# Altium schematic symbol library MySchLib.SchLib: 12 symbols
Pins are listed as number, name and electrical type; pins without a type are passive.

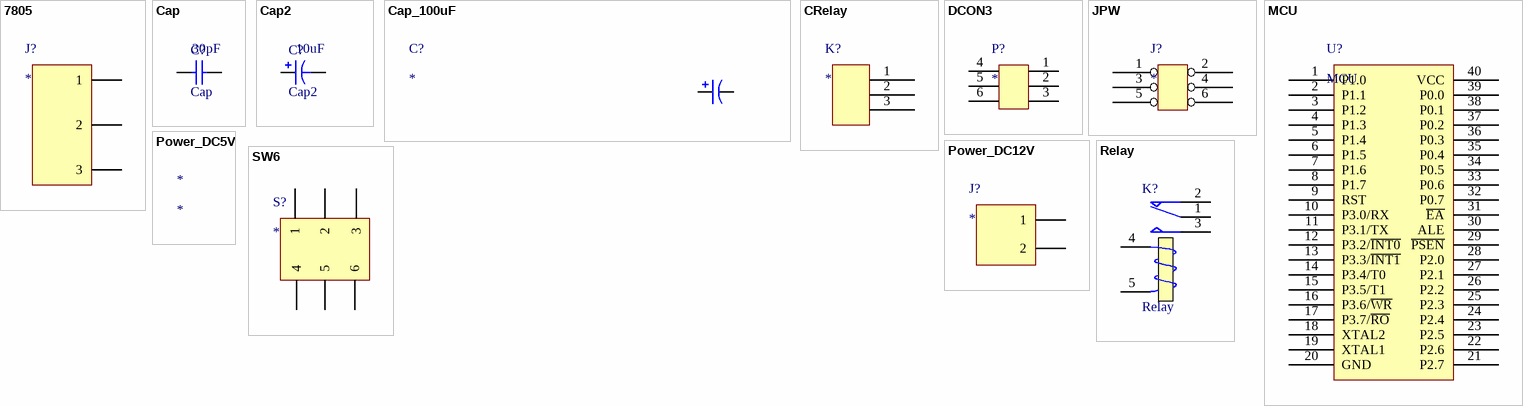
[diagram p0: symbols 7805 to SW6]

## 7805
designator J?
footprint 7805
pins: 1, 2, 3

## Cap
designator C?  value 30pF
Capacitor; Published: 8-Jun-2000; LatestRevisionDate: 17-Jul-2002; LatestRevisionNote: Re-released for DXP Platform.; PackageReference: RAD-0.3; Publisher: Altium Limited; PackageDescription: Radial Cap, Thru-Hole; 2 Leads; 0.3 in Pin Spacing
simulation model CAP (Capacitor)
signal-integrity model Cap
footprint cap (Footprint not found)
pins: 1, 2

## Cap2
designator C?  value 10uF
Polarized Capacitor (Axial); Published: 8-Jun-2000; LatestRevisionDate: 17-Jul-2002; LatestRevisionNote: Re-released for DXP Platform.; PackageReference: POLAR0.8; Publisher: Altium Limited; PackageDescription: Polarized Capacitor; 2 Leads
simulation model CAP (Capacitor)
footprint cap2
pins: 1, 2
1 alternate drawing of the same symbol

## Cap_100uF
designator C?
footprint Cap_100uF
pins: 1, 2

## CRelay
designator K?
footprint CRelay
pins: 1 NO, 2 COM, 3 NC

## DCON3
designator P?
footprint DCON3
pins: 1, 2, 3, 4, 5, 6

## JPW
designator J?
footprint JPW
pins: 1, 2, 3, 4, 5, 6

## MCU
designator U?
STC89C52RC; TAuthor: fcf; Version: 1.0; TDate: 2014/9/4
footprint MCU (STC89C52RC)
pins: 1 P1.0, 2 P1.1, 3 P1.2, 4 P1.3, 5 P1.4, 6 P1.5, 7 P1.6, 8 P1.7, 9 RST, 10 P3.0/RX, 11 P3.1/TX, 12 P3.2/~{INT0}, 13 P3.3/~{INT1}, 14 P3.4/T0, 15 P3.5/T1, 16 P3.6/~{WR}, 17 P3.7/~{RO}, 18 XTAL2, 19 XTAL1, 20 GND, 21 P2.7, 22 P2.6, 23 P2.5, 24 P2.4, 25 P2.3, 26 P2.2, 27 P2.1, 28 P2.0, 29 ~{PSEN}, 30 ALE, 31 ~{EA}, 32 P0.7, 33 P0.6, 34 P0.5, 35 P0.4, 36 P0.3, 37 P0.2, 38 P0.1, 39 P0.0, 40 VCC

## Power_DC5V
designator *

## Power_DC12V
designator J?
footprint Power_DC12V
pins: 1 (power), 2 (power)

## Relay
designator K?
HLS8L-DC5V-S-C; Published: 8-Jun-2000; LatestRevisionDate: 17-Jul-2002; LatestRevisionNote: Re-released for DXP Platform.; PackageReference: MODULE5B; Publisher: Altium Limited
footprint Relay (HLS8L-DC5V-S-C)
simulation model SPDTRELAY (Spice Subcircuit)
pins: 1 COM, 2 NO, 3 NC, 4 T, 5 VSS

## SW6
designator S?
footprint SW6
pins: 1 (power), 2 (power), 3 (power), 4 (power), 5 (power), 6 (power)